# Altium footprint library MEM2075.PcbLib: 1 footprints
Each footprint in its own frame and in the unit in brackets; x right, y up, seen from the top. Pads: shape width x height; smd on the part's side, far side on the other; paste and mask are expansions set on the pad; w line width, h text height; cw(c..) or ccw(c..) is an arc to the next point about the centre after c.
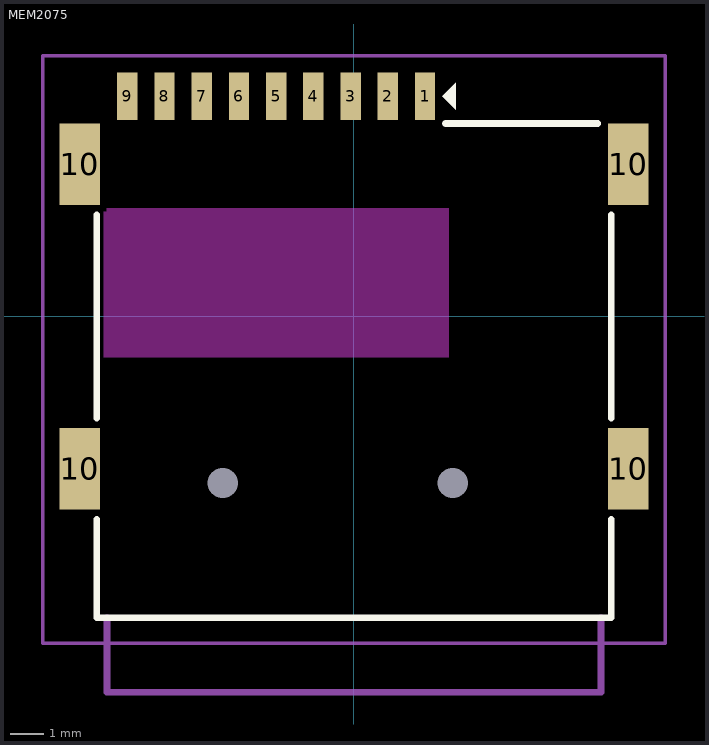
[diagram p0: the footprint, top view; thin cyan lines are the x and y axes]

## MEM2075 [mm]
pads (15):
  round 0 hole 0.9 unplated: 0(-3.88,-4.92) 0(2.92,-4.92)
  rect 0.6x1.4 smd: 1(2.1,6.5) 2(1,6.5) 3(-0.1,6.5) 4(-1.2,6.5) 5(-2.3,6.5) 6(-3.4,6.5) 7(-4.5,6.5) 8(-5.6,6.5) 9(-6.7,6.5)
  rect 1.2x2.4 smd: 10(-8.1,-4.5) 10(-8.1,4.5) 10(8.1,4.5) 10(8.1,-4.5)
Top Layer keep-out:
  region: 2.8,-1.2 2.8,3.2 -7.3,3.2 -7.3,3.1 -7.4,3.1 -7.4,-1.2
Top Overlay:
  region: 3,6.9 3,6.1 2.6,6.5
  lines w0.2: -7.6,-6 -7.6,-8.9 7.6,-8.9 7.6,-6 ; -7.6,-3 -7.6,3 ; 2.7,5.7 7.2,5.7 ; 7.6,-3 7.6,3
Mechanical 1:
  lines w0.2: -7.3,-8.9 -7.3,-11.1 7.3,-11.1 7.3,-8.9
Top Courtyard:
  lines w0.1: -9.2,-5.7 -9.2,-9.65 ; -9.2,7.2 -9.2,-9.65 ; -8.225,-9.65 -9.2,-9.65 ; -7,7.7 -9.2,7.7 ; 9.2,3.25 9.2,7.2 ; -9.2,-9.65 9.2,-9.65 9.2,7.2 ; -9.2,-9.65 -9.2,7.7 ; -9.2,7.7 9.2,7.7 9.2,7.2
3D body "MEM2075-00-140-01-A.stp": height 1.4, standoff -0.6, extent -8.22,-9.15 8.22,6.7